# Altium schematic symbol library Protectors.SchLib: 1 symbol
Pins are listed as number, name and electrical type; pins without a type are passive.

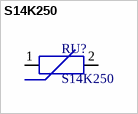
[diagram p0: symbol S14K250]

## S14K250
designator RU?
Варистор; ValueManufacturer: Epcos; ValueManufacturerPartNumber: B72214S0251K101; ValueType: Варистор
footprint B72214S0300K101
pins: 1, 2